# Altium footprint library 4-Pcblib_Diode.PcbLib: 24 footprints (part 2 of 2)
Each footprint in its own frame and in the unit in brackets; x right, y up, seen from the top. Pads: shape width x height; smd on the part's side, far side on the other; paste and mask are expansions set on the pad; w line width, h text height; cw(c..) or ccw(c..) is an arc to the next point about the centre after c.
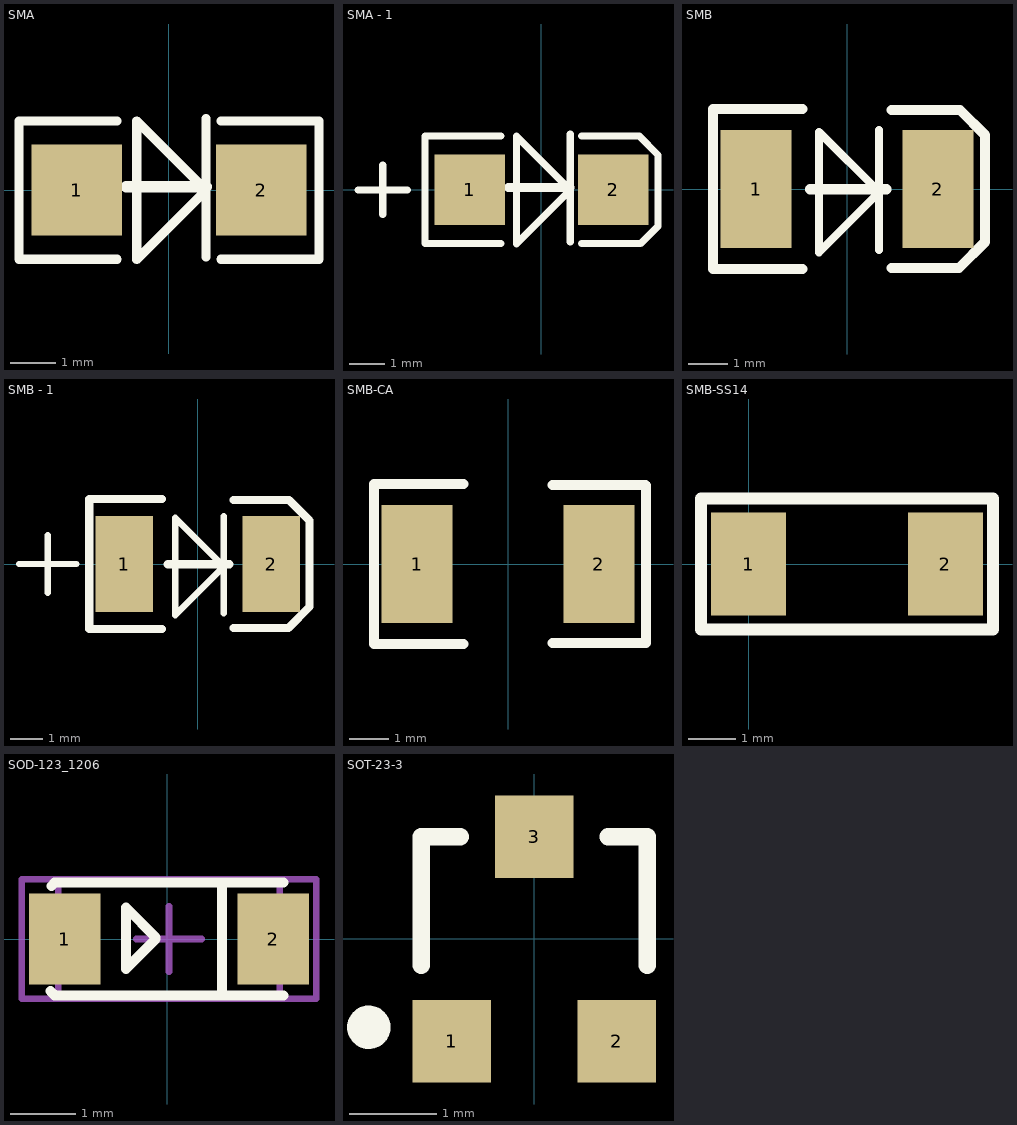
[diagram p1: the footprints below, top view; thin cyan lines are the x and y axes]

## SMA [mm]
pads (2):
  rect 2x2 smd: 1(-2.032,0) 2(2.032,0)
Top Overlay:
  lines w0.203: -1.143,-1.524 -3.302,-1.524 -3.302,1.524 -1.143,1.524 ; 0.815,-1.472 0.815,1.576 ; 0.815,-0.002 -0.709,-1.526 -0.709,1.522 0.816,-0.003 ; 1.143,-1.524 3.302,-1.524 3.302,1.524 1.143,1.524
  lines w0.254: -0.94,0.07 0.815,0.07
3D body: height 2.6, standoff 0.03, extent -2.75,-1.378 2.75,1.422

## SMA - 1 [mm]
pads (2):
  rect 2x2 smd: 1(-2.032,0) 2(2.032,0)
Top Overlay:
  lines w0.2: -5.2,0 -3.8,0
  lines w0.203: -4.5,-0.7 -4.5,0.7 ; -1.143,-1.524 -3.302,-1.524 -3.302,1.524 -1.143,1.524 ; 0.815,-1.472 0.815,1.576 ; 0.815,-0.002 -0.709,-1.526 -0.709,1.522 0.816,-0.003 ; 1.143,-1.524 2.807,-1.524 3.302,-1.029 3.302,0.991 2.769,1.524 1.143,1.524
  lines w0.254: -0.94,0.07 0.815,0.07
3D body: height 2.12, standoff -0.02, extent -2.489,-1.327 2.616,1.34

## SMB [mm] "TVS瞬变稳压二极管"
height 2.6
pads (2):
  rect 1.8x3 smd: 1(-2.3,0) 2(2.3,0)
Top Overlay:
  lines w0.203: 0.815,-1.548 0.815,1.5 ; 0.816,-0.079 -0.709,1.445 -0.709,-1.603 0.888,-0.006
  lines w0.254: -1.125,-2.032 -3.4,-2.032 -3.4,2.032 -1.125,2.032 ; -0.94,-0.006 1,-0.006 ; 1.125,-2 2.839,-2 3.5,-1.339 3.5,1.364 2.864,2 1.125,2
3D body: height 2.45, standoff 0.03, extent -2.687,-2.026 2.814,1.874

## SMB - 1 [mm] "TVS瞬变稳压二极管"
height 2.6
pads (2):
  rect 1.8x3 smd: 1(-2.3,0) 2(2.3,0)
Top Overlay:
  lines w0.2: -5.6,0 -3.8,0
  lines w0.203: -4.7,-0.9 -4.7,0.9 ; 0.815,-1.548 0.815,1.5 ; 0.816,-0.079 -0.709,1.445 -0.709,-1.603 0.888,-0.006
  lines w0.254: -1.125,-2.032 -3.4,-2.032 -3.4,2.032 -1.125,2.032 ; -0.94,-0.006 1,-0.006 ; 1.125,-2 2.839,-2 3.5,-1.339 3.5,1.364 2.864,2 1.125,2
3D body: height 2.45, standoff 0.03, extent -2.687,-2.026 2.814,1.874

## SMB-CA [mm] "TVS瞬变稳压二极管"
height 2.6
pads (2):
  rect 1.8x3 smd: 1(-2.3,0) 2(2.3,0)
Top Overlay:
  lines w0.254: -1.125,-2.032 -3.4,-2.032 -3.4,2.032 -1.125,2.032 ; 1.125,-2 3.5,-2 3.5,1.986 3.486,2 1.125,2
3D body: height 2.45, standoff 0.03, extent -2.687,-2.026 2.814,1.874

## SMB-SS14 [mm]
pads (2):
  rect 1.6x2.2 smd: 1(0,0) 2(4.191,0)
Top Overlay:
  lines w0.254: -1.016,-1.397 5.207,-1.397 5.207,1.397 -1.016,1.397 -1.016,-1.397
3D body: height 2.4, standoff 0, extent -0.243,-1.278 4.357,1.422

## SOD-123_1206 [mm]
height 1.35
pads (2):
  rect 1.1x1.4 smd: 1(-1.575,0) 2(1.625,0)
Top Overlay:
  lines w0.152: -1.791,-0.8 -1.727,-0.864 1.778,-0.864 ; -1.778,0.813 -1.727,0.864 1.778,0.864 ; -0.178,0 -0.635,-0.457 -0.635,0.483 -0.178,0.025 ; 0.838,-0.813 0.838,0.838
Mechanical 13:
  lines w0.1: -1.675,-0.875 -1.675,0.875 1.725,0.875 1.725,-0.875 -1.675,-0.875
Mechanical 15:
  lines w0.1: -0.475,0 0.525,0 ; 0.025,-0.5 0.025,0.5 ; -2.235,-0.914 -2.235,0.914 2.286,0.914 2.286,-0.914 -2.235,-0.914
3D body: height 1.5, standoff 0, extent -1.763,-0.762 1.737,0.738

## SOT-23-3 [mm]
height 1.1
pads (3):
  rect 0.9x0.95 smd: 1(-0.95,-1.175) 2(0.95,-1.175) 3(0,1.175)
Top Overlay:
  circle w0.25: c-1.903,-1.016 r0.125
  lines w0.2: -1.3,-0.3 -1.3,1.175 -0.85,1.175 ; 0.85,1.175 1.3,1.175 1.3,-0.3
3D body: height 1.05, standoff -0.05, extent -1.524,-1.377 1.476,1.123